# Altium schematic symbol library LD39300PT-R.Schlib: 1 symbol
Pins are listed as number, name and electrical type; pins without a type are passive.

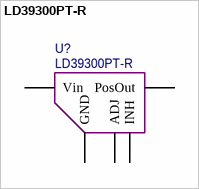
[diagram p0: symbol LD39300PT-R]

## LD39300PT-R
designator U?
pins: 1 INH, 2 Vin, 4 PosOut, 5 ADJ, 6 GND